# EAGLE library part ARDUINO_YUN (library Domino)
Arduino Yùn Platform
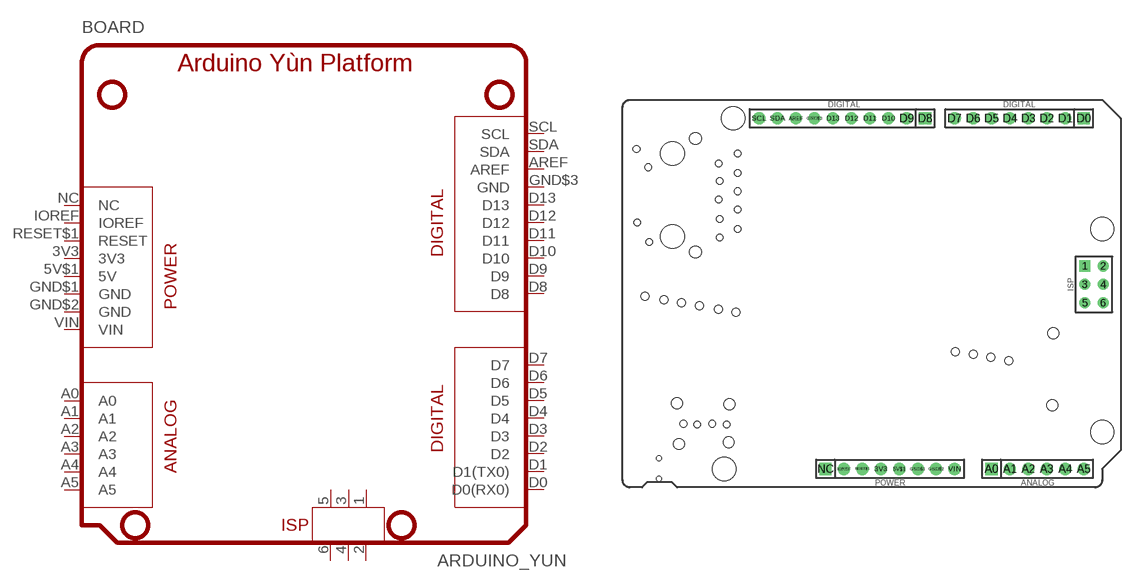
[diagram p6: symbol with the pads of ARDUINO-YUN-PLATFORM; footprint ARDUINO-YUN-PLATFORM]

Designator prefix BOARD

## ARDUINO_YUN  [ARDUINO-YUN-PLATFORM]
1  MISO  in
2  5V  pwr
3  SCK  out
3V3  3V3  sup
4  MOSI  out
5  RESET  in
5V$1  5V  pwr
6  GND  pwr
A0  A0
A1  A1
A2  A2
A3  A3
A4  A4
A5  A5
AREF  AREF  pas
D0  D0(RX0)
D1  D1(TX0)
D2  D2
D3  D3
D4  D4
D5  D5
D6  D6
D7  D7
D8  D8
D9  D9
D10  D10
D11  D11
D12  D12
D13  D13
GND$1  GND  sup
GND$2  GND  sup
GND$3  GND  pwr
IOREF  IOREF  pwr
NC  NC  nc
RESET$1  RESET
SCL  SCL
SDA  SDA
VIN  VIN  pwr

## Footprint ARDUINO-YUN-PLATFORM (pad centres in mm)
Arduino Yùn Platform
drill 1.016 square: 1 63.627,30.48
drill 1.016: 2 66.167,30.48; 3 63.627,27.94; 4 66.167,27.94; 5 63.627,25.4; 6 66.167,25.4
drill 1.016 pad 1.676: 3V3 35.56,2.54; 5V$1 38.1,2.54; A1 53.34,2.54; A2 55.88,2.54; A3 58.42,2.54; A4 60.96,2.54; A5 63.5,2.54; AREF 23.876,50.8; D1 60.96,50.8; D2 58.42,50.8; D3 55.88,50.8; D4 53.34,50.8; D5 50.8,50.8; D6 48.26,50.8; D7 45.72,50.8; D9 39.116,50.8; D10 36.576,50.8; D11 34.036,50.8; D12 31.496,50.8; D13 28.956,50.8; GND$1 40.64,2.54; GND$2 43.18,2.54; GND$3 26.416,50.8; IOREF 30.48,2.54; RESET$1 33.02,2.54; SCL 18.796,50.8; SDA 21.336,50.8; VIN 45.72,2.54
drill 1.016 pad 1.676 square: A0 50.8,2.54; D0 63.5,50.8; D8 41.656,50.8; NC 27.94,2.54
hole 3.2 at 66.04,35.56
hole 3.2 at 66.04,7.62
hole 3.2 at 15.24,50.8
hole 3.2 at 13.97,2.54
hole 1.1 at 3.1,26.3
hole 1.1 at 5.7,25.8
hole 1.1 at 8.1,25.427
hole 1.1 at 10.6,25
hole 1.1 at 13.2,24.527
hole 1.1 at 15.6,24.1
hole 1.1 at 45.8,18.7
hole 1.1 at 48.3,18.3
hole 1.1 at 50.7,17.9
hole 1.1 at 53.2,17.4
hole 0.65 at 5,4
hole 0.65 at 5,1.2
hole 3.25 at 6.858,45.974
hole 3.25 at 6.858,34.544
hole 0.92 at 8.382,8.763
hole 0.92 at 10.287,8.636
hole 0.92 at 12.319,8.763
hole 0.92 at 14.351,8.636
hole 1.5 at 59.182,11.303
hole 1.5 at 59.309,21.209
hole 1.5 at 7.493,11.557
hole 1.5 at 7.747,5.969
hole 1.5 at 14.605,6.223
hole 1.5 at 14.732,11.43
hole 0.9 at 15.875,45.974
hole 0.9 at 15.875,43.307
hole 0.9 at 15.875,40.767
hole 0.9 at 15.875,38.227
hole 0.9 at 15.875,35.56
hole 0.9 at 13.208,44.577
hole 0.9 at 13.335,42.164
hole 0.9 at 13.208,39.624
hole 0.9 at 13.335,36.957
hole 0.9 at 13.335,34.417
hole 0.9 at 1.905,46.609
hole 0.9 at 3.556,44.069
hole 0.9 at 2.032,36.449
hole 0.9 at 3.683,33.782
hole 1.6 at 10.033,48.006
hole 1.6 at 10.033,32.385